# Altium integrated library Analog Devices Operational Amplifiers.IntLib: 2102 symbols (part 26 of 70)
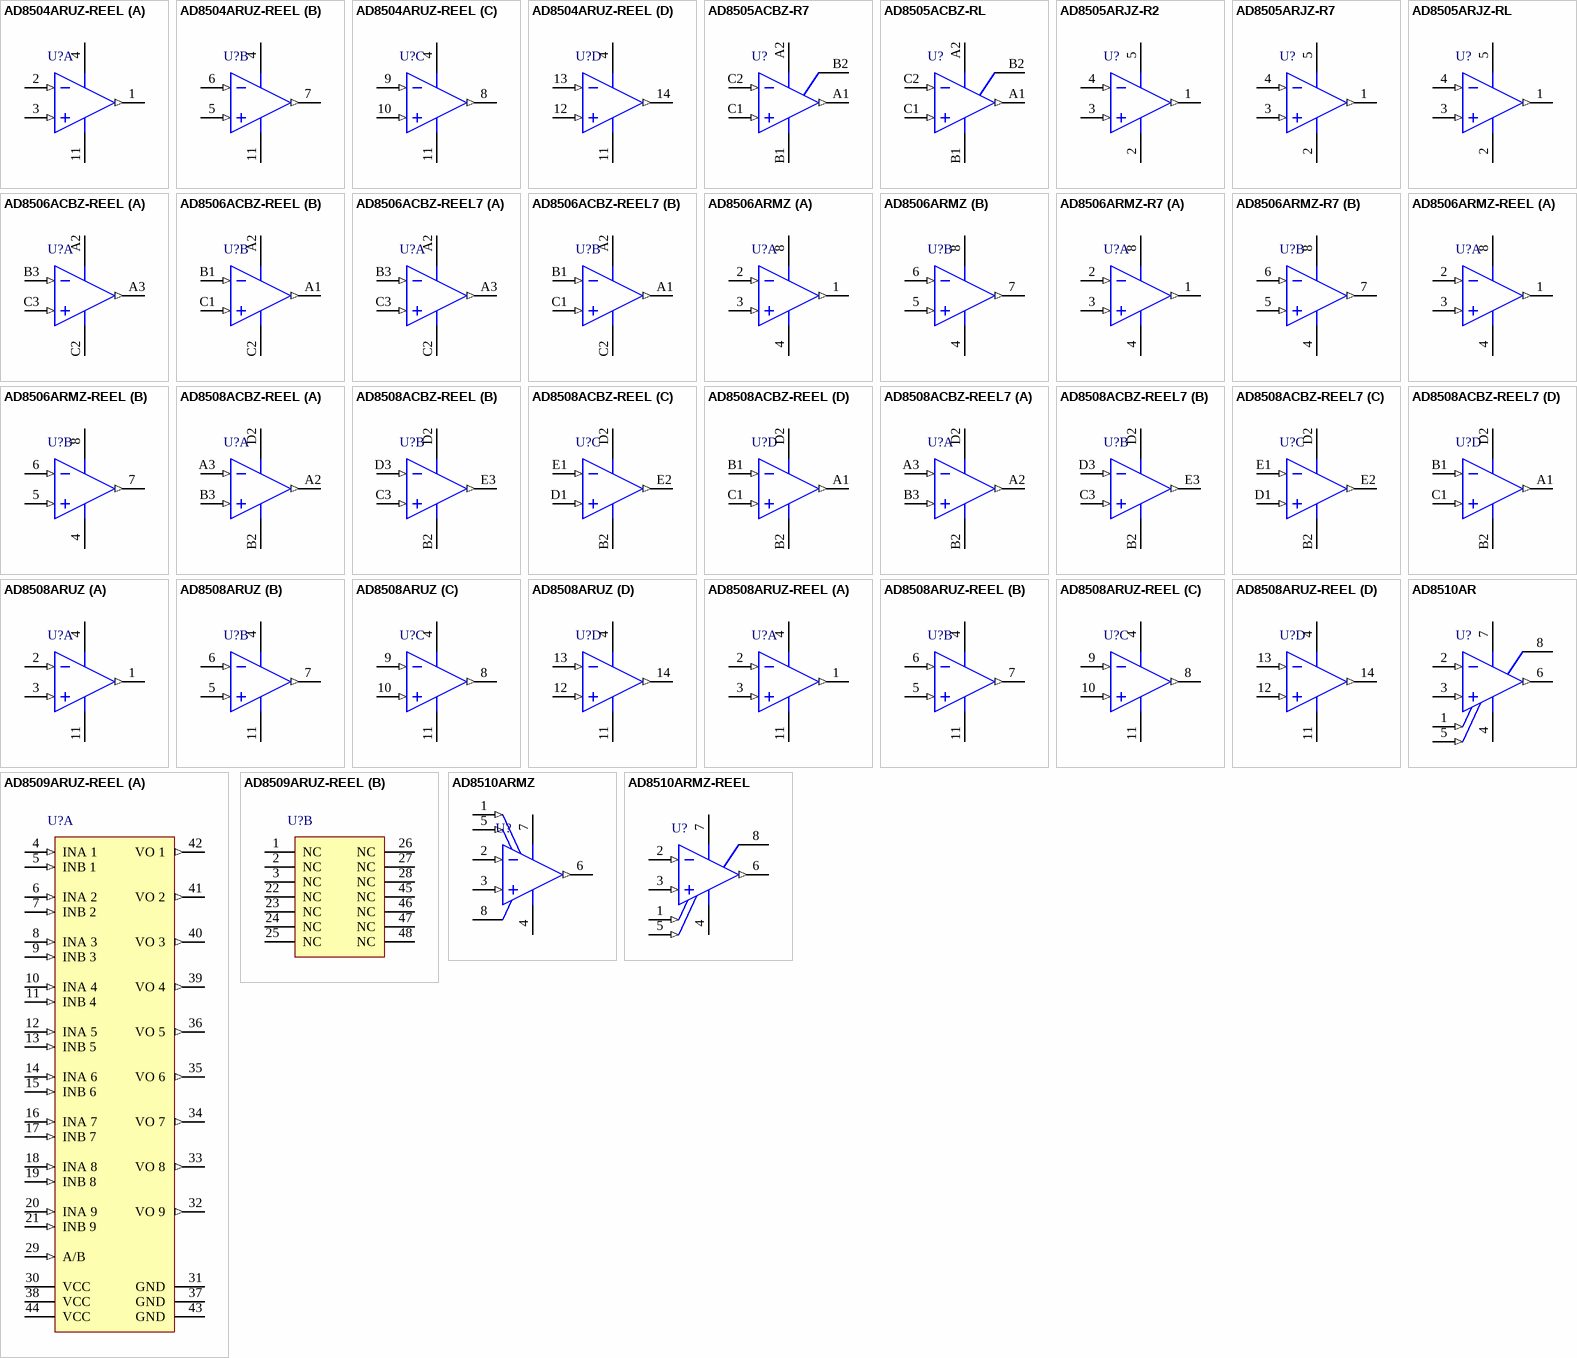
[diagram p139: symbols AD8504ARUZ-REEL to AD8510ARMZ-REEL]

## AD8506ARMZ-REEL
designator U?
Double Channel Rail-to-Rail Operational Amplifier, 150 KHz BW, 13 mV/us SR, Industrial, 8-pin SOP (RM-8), Reel; Generic Part Number: AD8506; Manufacturer: Analog Devices; PartNumber: AD8506ARMZ-REEL; Amplifiers Per Package: 2; Input Bias Current: 1pA; Input Offset Voltage: 2.5mV; Iq/Amp: 20uA; Small Signal Bandwidth: 150KHz; V Span Max: 5.5V; V Span Min: 1.8V; DatasheetVersion: Rev. E; PackageReference: RM-8; PackageDescription: 8-Pin Mini Small Outline Package, Body 3 x 3 mm, Pitch 0.65 mm; Supplier 1: Digi-Key; Supplier Part Number 1: AD8506ARMZ-REELTR-ND; Supplier 2: Digi-Key; Supplier Part Number 2: AD8506ARMZ-REELCT-ND; Supplier 3: Digi-Key; Supplier Part Number 3: AD8506ARMZ-REELDKR-ND; Slew Rate: 13mV/us; Mounting Technology: Surface Mount; Code_JEDEC: MO-187-AA; ComponentLink1Description: Manufacturer URL; ComponentLink1URL: http://www.analog.com/en/index.html; ComponentLink2Description: Datasheet; ComponentLink2URL: http://www.analog.com/static/imported-files/data_sheets/AD8505_8506_8508.pdf; ComponentLink3Description: Package Specification; ComponentLink3URL: http://www.analog.com/static/imported-files/packages/PKG_PDF/MSOP%28RM%29/RM_8.pdf
footprint ADI-RM-8_N (SOP, 8-Leads, Body 3x3mm, Pitch 0.65mm, IPC Medium Density)
footprint ADI-RM-8_L (SOP, 8-Leads, Body 3x3mm, Pitch 0.65mm, IPC High Density)
footprint ADI-RM-8_M (SOP, 8-Leads, Body 3x3mm, Pitch 0.65mm, IPC Low Density)
pins on every part: 4 -V (power), 8 +V (power)
part A pins: 1 OUT A (out), 2 -IN A (in), 3 +IN A (in)
part B pins: 5 +IN B (in), 6 -IN B (in), 7 OUT B (out)

## AD8508ACBZ-REEL
designator U?
Quad Channel Rail-to-Rail Operational Amplifier, 95 KHz BW, 13 mV/us SR, Industrial, 14-pin BGA (CB-14-1), Reel; Generic Part Number: AD8508; Manufacturer: Analog Devices; PartNumber: AD8508ACBZ-REEL; Amplifiers Per Package: 4; Input Bias Current: 1pA; Input Offset Voltage: 500uV; Iq/Amp: 15uA; Small Signal Bandwidth: 95KHz; V Span Max: 5V; V Span Min: 1.8V; DatasheetVersion: Rev. E; PackageVersion: 061208-A; PackageReference: CB-14-1; PackageDescription: 14-Ball Wafer Level Chip Scale Package, Body 2.96 x 1.46 mm, Pitch 0.5 mm; Supplier 1: Digi-Key; Supplier Part Number 1: AD8508ACBZ-REEL-ND; Slew Rate: 13mV/us; Mounting Technology: Surface Mount; ComponentLink1Description: Manufacturer URL; ComponentLink1URL: http://www.analog.com/en/index.html; ComponentLink2Description: Datasheet; ComponentLink2URL: http://www.analog.com/static/imported-files/data_sheets/AD8505_8506_8508.pdf; ComponentLink3Description: Package Specification; ComponentLink3URL: http://www.analog.com/static/imported-files/packages/PKG_PDF/WLCSP(CB)/CB_14_1.pdf
footprint ADI-CB-14-1 (BGA, 14-Balls, Body 2.96x1.46mm, Pitch 0.5mm)
pins on every part: B2 -V (power), D2 +V (power)
part A pins: A2 OUT A (out), A3 -IN A (in), B3 +IN A (in)
part B pins: C3 +IN B (in), D3 -IN B (in), E3 OUT B (out)
part C pins: D1 +IN C (in), E1 -IN C (in), E2 OUT C (out)
part D pins: A1 OUT D (out), B1 -IN D (in), C1 +IN D (in)

## AD8508ACBZ-REEL7
designator U?
Quad Channel Rail-to-Rail Operational Amplifier, 95 KHz BW, 13 mV/us SR, Industrial, 14-pin BGA (CB-14-1), Reel; Generic Part Number: AD8508; Manufacturer: Analog Devices; PartNumber: AD8508ACBZ-REEL7; Amplifiers Per Package: 4; Input Bias Current: 1pA; Input Offset Voltage: 500uV; Iq/Amp: 15uA; Small Signal Bandwidth: 95KHz; V Span Max: 5V; V Span Min: 1.8V; DatasheetVersion: Rev. E; PackageVersion: 061208-A; PackageReference: CB-14-1; PackageDescription: 14-Ball Wafer Level Chip Scale Package, Body 2.96 x 1.46 mm, Pitch 0.5 mm; Supplier 1: Digi-Key; Supplier Part Number 1: AD8508ACBZ-REEL7TR-ND; Supplier 2: Digi-Key; Supplier Part Number 2: AD8508ACBZ-REEL7CT-ND; Supplier 3: Digi-Key; Supplier Part Number 3: AD8508ACBZ-REEL7DKR-ND; Slew Rate: 13mV/us; Mounting Technology: Surface Mount; ComponentLink1Description: Manufacturer URL; ComponentLink1URL: http://www.analog.com/en/index.html; ComponentLink2Description: Datasheet; ComponentLink2URL: http://www.analog.com/static/imported-files/data_sheets/AD8505_8506_8508.pdf; ComponentLink3Description: Package Specification; ComponentLink3URL: http://www.analog.com/static/imported-files/packages/PKG_PDF/WLCSP(CB)/CB_14_1.pdf
footprint ADI-CB-14-1 (BGA, 14-Balls, Body 2.96x1.46mm, Pitch 0.5mm)
pins on every part: B2 -V (power), D2 +V (power)
part A pins: A2 OUT A (out), A3 -IN A (in), B3 +IN A (in)
part B pins: C3 +IN B (in), D3 -IN B (in), E3 OUT B (out)
part C pins: D1 +IN C (in), E1 -IN C (in), E2 OUT C (out)
part D pins: A1 OUT D (out), B1 -IN D (in), C1 +IN D (in)

## AD8508ARUZ
designator U?
Quad Channel Rail-to-Rail Operational Amplifier, 95 KHz BW, 13 mV/us SR, Industrial, 14-pin SOP (RU-14), Tube; Generic Part Number: AD8508; Manufacturer: Analog Devices; PartNumber: AD8508ARUZ; Amplifiers Per Package: 4; Input Bias Current: 1pA; Input Offset Voltage: 500uV; Iq/Amp: 15uA; Small Signal Bandwidth: 95KHz; V Span Max: 5V; V Span Min: 1.8V; DatasheetVersion: Rev. E; PackageReference: RU-14; PackageDescription: 14-Pin Thin Shrink Small Outline Package, Body 5 x 4.4 mm, Pitch 0.65 mm; Supplier 1: Digi-Key; Supplier Part Number 1: AD8508ARUZ-ND; Supplier 2: Newark; Supplier Part Number 2: 07P8986; Slew Rate: 13mV/us; Mounting Technology: Surface Mount; Code_JEDEC: MO-153AB-1; ComponentLink1Description: Manufacturer URL; ComponentLink1URL: http://www.analog.com/en/index.html; ComponentLink2Description: Datasheet; ComponentLink2URL: http://www.analog.com/static/imported-files/data_sheets/AD8505_8506_8508.pdf; ComponentLink3Description: Package Specification; ComponentLink3URL: http://www.analog.com/static/imported-files/packages/36057385283879153717235186773RU14.pdf
footprint ADI-RU-14_N (SOP, 14-Leads, Body 5x4.4mm, Pitch 0.65mm, IPC Medium Density)
footprint ADI-RU-14_L (SOP, 14-Leads, Body 5x4.4mm, Pitch 0.65mm, IPC High Density)
footprint ADI-RU-14_M (SOP, 14-Leads, Body 5x4.4mm, Pitch 0.65mm, IPC Low Density)
pins on every part: 4 +V (power), 11 -V (power)
part A pins: 1 OUT A (out), 2 -IN A (in), 3 +IN A (in)
part B pins: 5 +IN B (in), 6 -IN B (in), 7 OUT B (out)
part C pins: 8 OUT C (out), 9 -IN C (in), 10 +IN C (in)
part D pins: 12 +IN D (in), 13 -IN D (in), 14 OUT D (out)

## AD8508ARUZ-REEL
designator U?
Quad Channel Rail-to-Rail Operational Amplifier, 95 KHz BW, 13 mV/us SR, Industrial, 14-pin SOP (RU-14), Reel; Generic Part Number: AD8508; Manufacturer: Analog Devices; PartNumber: AD8508ARUZ-REEL; Amplifiers Per Package: 4; Input Bias Current: 1pA; Input Offset Voltage: 500uV; Iq/Amp: 15uA; Small Signal Bandwidth: 95KHz; V Span Max: 5V; V Span Min: 1.8V; DatasheetVersion: Rev. E; PackageReference: RU-14; PackageDescription: 14-Pin Thin Shrink Small Outline Package, Body 5 x 4.4 mm, Pitch 0.65 mm; Supplier 1: Digi-Key; Supplier Part Number 1: AD8508ARUZ-REEL-ND; Slew Rate: 13mV/us; Mounting Technology: Surface Mount; Code_JEDEC: MO-153AB-1; ComponentLink1Description: Manufacturer URL; ComponentLink1URL: http://www.analog.com/en/index.html; ComponentLink2Description: Datasheet; ComponentLink2URL: http://www.analog.com/static/imported-files/data_sheets/AD8505_8506_8508.pdf; ComponentLink3Description: Package Specification; ComponentLink3URL: http://www.analog.com/static/imported-files/packages/36057385283879153717235186773RU14.pdf
footprint ADI-RU-14_N (SOP, 14-Leads, Body 5x4.4mm, Pitch 0.65mm, IPC Medium Density)
footprint ADI-RU-14_L (SOP, 14-Leads, Body 5x4.4mm, Pitch 0.65mm, IPC High Density)
footprint ADI-RU-14_M (SOP, 14-Leads, Body 5x4.4mm, Pitch 0.65mm, IPC Low Density)
pins on every part: 4 +V (power), 11 -V (power)
part A pins: 1 OUT A (out), 2 -IN A (in), 3 +IN A (in)
part B pins: 5 +IN B (in), 6 -IN B (in), 7 OUT B (out)
part C pins: 8 OUT C (out), 9 -IN C (in), 10 +IN C (in)
part D pins: 12 +IN D (in), 13 -IN D (in), 14 OUT D (out)

## AD8509ARUZ-REEL
designator U?
9 Channel Single-Supply Operation Operational Amplifier, 7 V/us SR, Industrial, 48-pin SOP (RV-48), Reel; Generic Part Number: AD8509; Manufacturer: Analog Devices; PartNumber: AD8509ARUZ-REEL; Amplifiers Per Package: 9; Input Bias Current: 50nA; Input Offset Voltage: 20mV; Iq/Amp: 8.5mA; Slew Rate: 7V/us; V Span Max: 6.5V; V Span Min: 3.3V; DatasheetVersion: Rev. C; PackageReference: RV-48; PackageDescription: 48-Pin Thin Shrink Small Outline Package, Body 12.5 x 6.1 mm, Pitch 0.5 mm; Supplier 1: Digi-Key; Supplier Part Number 1: AD8509ARUZ-REEL-ND; Packing: Reel; Mounting Technology: Surface Mount; Code_JEDEC: MO-153-ED; ComponentLink1Description: Manufacturer URL; ComponentLink1URL: http://www.analog.com/en/index.html; ComponentLink2Description: Datasheet; ComponentLink2URL: http://www.analog.com/static/imported-files/data_sheets/AD8509_8511.pdf; ComponentLink3Description: Package Specification; ComponentLink3URL: http://www.analog.com/static/imported-files/packages/59272155RV_48.pdf
footprint ADI-RV-48_N (SOP, 48-Leads, Body 12.5x6.1mm, Pitch 0.5mm, IPC Medium Density)
footprint ADI-RV-48_L (SOP, 48-Leads, Body 12.5x6.1mm, Pitch 0.5mm, IPC High Density)
footprint ADI-RV-48_M (SOP, 48-Leads, Body 12.5x6.1mm, Pitch 0.5mm, IPC Low Density)
part A pins: 4 INA 1 (in) "MUX Input", 5 INB 1 (in) "MUX Input", 6 INA 2 (in) "MUX Input", 7 INB 2 (in) "MUX Input", 8 INA 3 (in) "MUX Input", 9 INB 3 (in) "MUX Input", 10 INA 4 (in) "MUX Input", 11 INB 4 (in) "MUX Input", 12 INA 5 (in) "MUX Input", 13 INB 5 (in) "MUX Input", 14 INA 6 (in) "MUX Input", 15 INB 6 (in) "MUX Input", 16 INA 7 (in) "MUX Input", 17 INB 7 (in) "MUX Input", 18 INA 8 (in) "MUX Input", 19 INB 8 (in) "MUX Input", 20 INA 9 (in) "MUX Input", 21 INB 9 (in) "MUX Input", 29 A/B (in) "Input Selection Pin", 30 VCC (power) "Bias", 31 GND (power) "Ground", 32 VO 9 (out) "MUX Output", 33 VO 8 (out) "MUX Output", 34 VO 7 (out) "MUX Output", 35 VO 6 (out) "MUX Output", 36 VO 5 (out) "MUX Output", 37 GND (power) "Ground", 38 VCC (power) "Bias", 39 VO 4 (out) "MUX Output", 40 VO 3 (out) "MUX Output", 41 VO 2 (out) "MUX Output", 42 VO 1 (out) "MUX Output", 43 GND (power) "Ground", 44 VCC (power) "Bias"
part B pins: 1 NC "No Connection", 2 NC "No Connection", 3 NC "No Connection", 22 NC "No Connection", 23 NC "No Connection", 24 NC "No Connection", 25 NC "No Connection", 26 NC "No Connection", 27 NC "No Connection", 28 NC "No Connection", 45 NC "No Connection", 46 NC "No Connection", 47 NC "No Connection", 48 NC "No Connection"

## AD8510AR
designator U?
Single Channel Low Offset Voltage Operational Amplifier, 8 MHz BW, 20 V/us SR, Industrial, 8-pin SOIC (R-8), Tube; Generic Part Number: AD8510; Manufacturer: Analog Devices; PartNumber: AD8510AR; Amplifiers Per Package: 1; Input Bias Current: 21pA; Input Offset Voltage: 80uV; Iq/Amp: 2.5mA; Slew Rate: 20V/us; Small Signal Bandwidth: 8MHz; V Span Max: 36V; V Span Min: 9V; DatasheetVersion: Rev. I; PackageVersion: 060506-A; PackageReference: R-8; PackageDescription: 8-Pin Standard Small Outline Package, Body 3.9 x 4.9 mm, Pitch 1.27 mm; Supplier 1: Digi-Key; Supplier Part Number 1: AD8510AR-ND; Mounting Technology: Surface Mount; Code_JEDEC: MS-012-AA; ComponentLink1Description: Manufacturer URL; ComponentLink1URL: http://www.analog.com/en/index.html; ComponentLink2Description: Datasheet; ComponentLink2URL: http://www.analog.com/static/imported-files/data_sheets/AD8510_8512_8513.pdf; ComponentLink3Description: Package Specification; ComponentLink3URL: http://www.analog.com/static/imported-files/packages/PKG_PDF/SOIC_Narrow%20(R)/R_8.pdf; ComponentLink4Description: Reference Circuit; ComponentLink4URL: http://www.analog.com/en/all-operational-amplifiers-op-amps/operational-amplifiers-op-amps/ad8510/products/product.html#product-recommendations
footprint ADI-R-8_N (SOIC, 8-Leads, Body 4.9x3.9mm, Pitch 1.27mm, IPC Medium Density)
footprint ADI-R-8_L (SOIC, 8-Leads, Body 4.9x3.9mm, Pitch 1.27mm, IPC High Density)
footprint ADI-R-8_M (SOIC, 8-Leads, Body 4.9x3.9mm, Pitch 1.27mm, IPC Low Density)
pins: 1 NULL (in), 2 -IN (in), 3 +IN (in), 4 -V (power), 5 NULL (in), 6 OUT (out), 7 +V (power), 8 NC

## AD8510ARMZ
designator U?
Single Channel Low Offset Voltage Operational Amplifier, 8 MHz BW, 20 V/us SR, Industrial, 8-pin SOP (RM-8), Tube; Generic Part Number: AD8510; Manufacturer: Analog Devices; PartNumber: AD8510ARMZ; Amplifiers Per Package: 1; Input Bias Current: 21pA; Input Offset Voltage: 80uV; Iq/Amp: 2.5mA; Slew Rate: 20V/us; Small Signal Bandwidth: 8MHz; V Span Max: 36V; V Span Min: 9V; DatasheetVersion: Rev. I; PackageReference: RM-8; PackageDescription: 8-Pin Mini Small Outline Package, Body 3 x 3 mm, Pitch 0.65 mm; Supplier 1: Digi-Key; Supplier Part Number 1: AD8510ARMZ-ND; Supplier 2: Newark; Supplier Part Number 2: 45P6465; Mounting Technology: Surface Mount; Code_JEDEC: MO-187-AA; ComponentLink1Description: Manufacturer URL; ComponentLink1URL: http://www.analog.com/en/index.html; ComponentLink2Description: Datasheet; ComponentLink2URL: http://www.analog.com/static/imported-files/data_sheets/AD8510_8512_8513.pdf; ComponentLink3Description: Package Specification; ComponentLink3URL: http://www.analog.com/static/imported-files/packages/PKG_PDF/MSOP%28RM%29/RM_8.pdf; ComponentLink4Description: Reference Circuit; ComponentLink4URL: http://www.analog.com/en/all-operational-amplifiers-op-amps/operational-amplifiers-op-amps/ad8510/products/product.html#product-recommendations
footprint ADI-RM-8_N (SOP, 8-Leads, Body 3x3mm, Pitch 0.65mm, IPC Medium Density)
footprint ADI-RM-8_L (SOP, 8-Leads, Body 3x3mm, Pitch 0.65mm, IPC High Density)
footprint ADI-RM-8_M (SOP, 8-Leads, Body 3x3mm, Pitch 0.65mm, IPC Low Density)
pins: 1 NULL (in), 2 -IN (in), 3 +IN (in), 4 -V (power), 5 NULL (in), 6 OUT (out), 7 +V (power), 8 NC

## AD8510ARMZ-REEL
designator U?
Single Channel Low Offset Voltage Operational Amplifier, 8 MHz BW, 20 V/us SR, Industrial, 8-pin SOP (RM-8), Reel; Generic Part Number: AD8510; Manufacturer: Analog Devices; PartNumber: AD8510ARMZ-REEL; Amplifiers Per Package: 1; Input Bias Current: 21pA; Input Offset Voltage: 80uV; Iq/Amp: 2.5mA; Slew Rate: 20V/us; Small Signal Bandwidth: 8MHz; V Span Max: 36V; V Span Min: 9V; DatasheetVersion: Rev. I; PackageReference: RM-8; PackageDescription: 8-Pin Mini Small Outline Package, Body 3 x 3 mm, Pitch 0.65 mm; Supplier 1: Digi-Key; Supplier Part Number 1: AD8510ARMZ-REELTR-ND; Supplier 2: Digi-Key; Supplier Part Number 2: AD8510ARMZ-REELCT-ND; Supplier 3: Digi-Key; Supplier Part Number 3: AD8510ARMZ-REELDKR-ND; Mounting Technology: Surface Mount; Code_JEDEC: MO-187-AA; ComponentLink1Description: Manufacturer URL; ComponentLink1URL: http://www.analog.com/en/index.html; ComponentLink2Description: Datasheet; ComponentLink2URL: http://www.analog.com/static/imported-files/data_sheets/AD8510_8512_8513.pdf; ComponentLink3Description: Package Specification; ComponentLink3URL: http://www.analog.com/static/imported-files/packages/PKG_PDF/MSOP%28RM%29/RM_8.pdf; ComponentLink4Description: Reference Circuit; ComponentLink4URL: http://www.analog.com/en/all-operational-amplifiers-op-amps/operational-amplifiers-op-amps/ad8510/products/product.html#product-recommendations
footprint ADI-RM-8_N (SOP, 8-Leads, Body 3x3mm, Pitch 0.65mm, IPC Medium Density)
footprint ADI-RM-8_L (SOP, 8-Leads, Body 3x3mm, Pitch 0.65mm, IPC High Density)
footprint ADI-RM-8_M (SOP, 8-Leads, Body 3x3mm, Pitch 0.65mm, IPC Low Density)
pins: 1 NULL (in), 2 -IN (in), 3 +IN (in), 4 -V (power), 5 NULL (in), 6 OUT (out), 7 +V (power), 8 NC

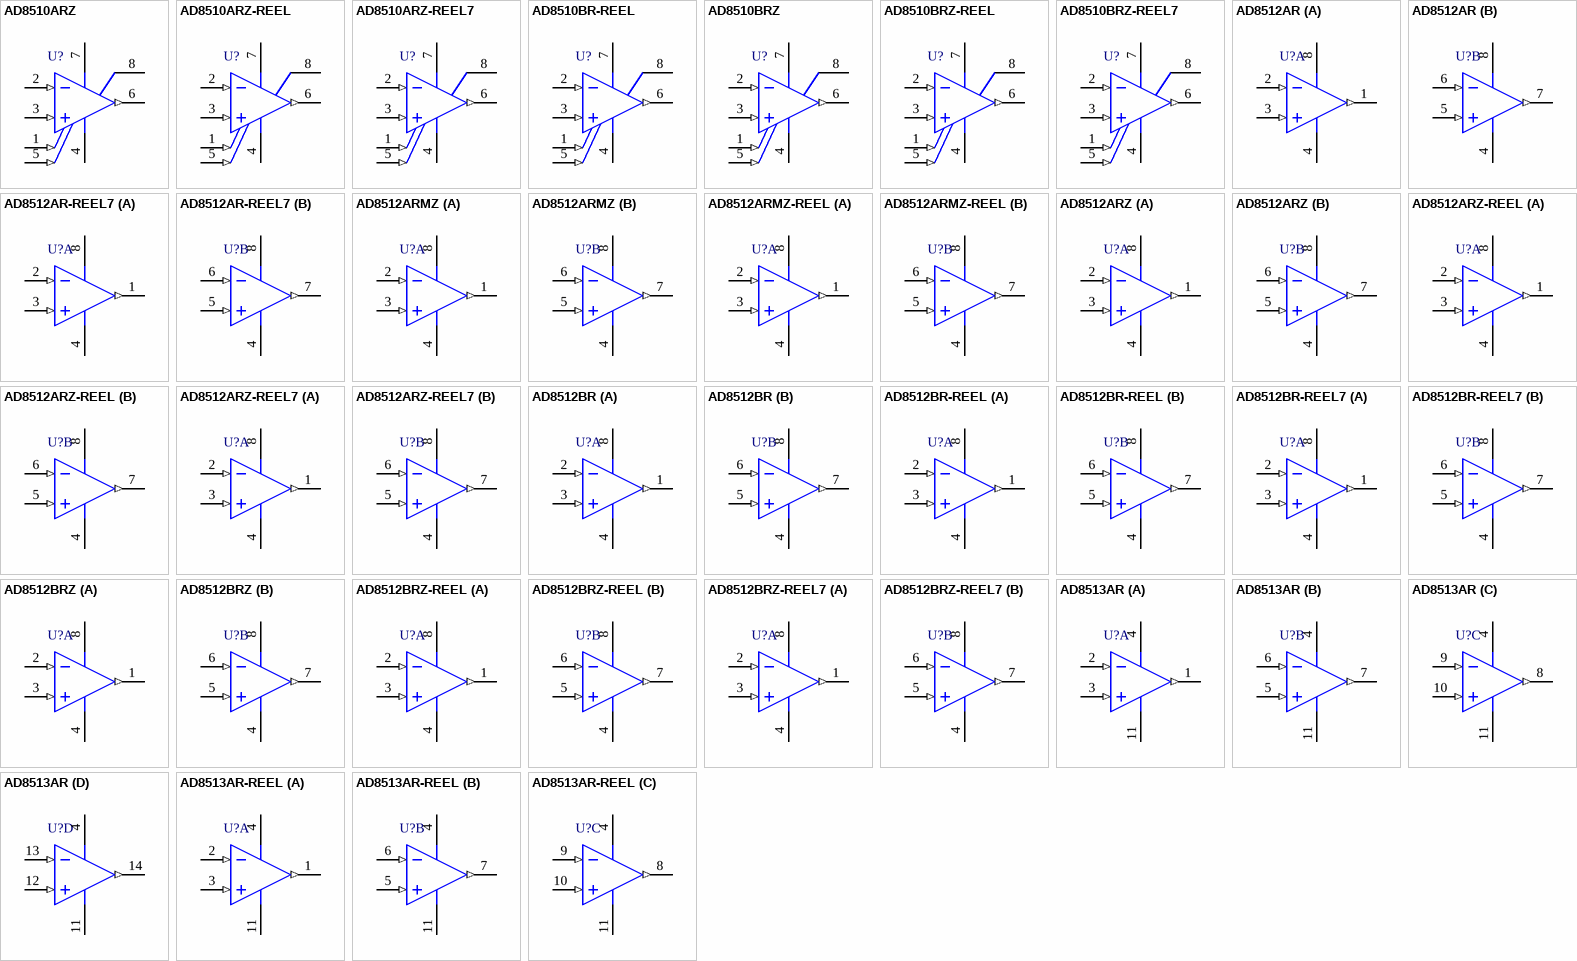
[diagram p38: symbols AD8510ARZ to AD8513AR-REEL]

## AD8510ARZ
designator U?
Single Channel Low Offset Voltage Operational Amplifier, 8 MHz BW, 20 V/us SR, Industrial, 8-pin SOIC (R-8), Tube; Generic Part Number: AD8510; Manufacturer: Analog Devices; PartNumber: AD8510ARZ; Amplifiers Per Package: 1; Input Bias Current: 21pA; Input Offset Voltage: 80uV; Iq/Amp: 2.5mA; Slew Rate: 20V/us; Small Signal Bandwidth: 8MHz; V Span Max: 36V; V Span Min: 9V; DatasheetVersion: Rev. I; PackageVersion: 060506-A; PackageReference: R-8; PackageDescription: 8-Pin Standard Small Outline Package, Body 3.9 x 4.9 mm, Pitch 1.27 mm; Supplier 1: Digi-Key; Supplier Part Number 1: AD8510ARZ-ND; Supplier 2: Farnell; Supplier Part Number 2: 1389162; Supplier 3: Farnell; Supplier Part Number 3: 1319452; Supplier 4: Newark; Supplier Part Number 4: 19M8908; Mounting Technology: Surface Mount; Code_JEDEC: MS-012-AA; ComponentLink1Description: Manufacturer URL; ComponentLink1URL: http://www.analog.com/en/index.html; ComponentLink2Description: Datasheet; ComponentLink2URL: http://www.analog.com/static/imported-files/data_sheets/AD8510_8512_8513.pdf; ComponentLink3Description: Package Specification; ComponentLink3URL: http://www.analog.com/static/imported-files/packages/PKG_PDF/SOIC_Narrow%20(R)/R_8.pdf; ComponentLink4Description: Reference Circuit; ComponentLink4URL: http://www.analog.com/en/all-operational-amplifiers-op-amps/operational-amplifiers-op-amps/ad8510/products/product.html#product-recommendations
footprint ADI-R-8_N (SOIC, 8-Leads, Body 4.9x3.9mm, Pitch 1.27mm, IPC Medium Density)
footprint ADI-R-8_L (SOIC, 8-Leads, Body 4.9x3.9mm, Pitch 1.27mm, IPC High Density)
footprint ADI-R-8_M (SOIC, 8-Leads, Body 4.9x3.9mm, Pitch 1.27mm, IPC Low Density)
pins: 1 NULL (in), 2 -IN (in), 3 +IN (in), 4 -V (power), 5 NULL (in), 6 OUT (out), 7 +V (power), 8 NC

## AD8510ARZ-REEL
designator U?
Single Channel Low Offset Voltage Operational Amplifier, 8 MHz BW, 20 V/us SR, Industrial, 8-pin SOIC (R-8), Reel; Generic Part Number: AD8510; Manufacturer: Analog Devices; PartNumber: AD8510ARZ-REEL; Amplifiers Per Package: 1; Input Bias Current: 21pA; Input Offset Voltage: 80uV; Iq/Amp: 2.5mA; Slew Rate: 20V/us; Small Signal Bandwidth: 8MHz; V Span Max: 36V; V Span Min: 9V; DatasheetVersion: Rev. I; PackageVersion: 060506-A; PackageReference: R-8; PackageDescription: 8-Pin Standard Small Outline Package, Body 3.9 x 4.9 mm, Pitch 1.27 mm; Supplier 1: Digi-Key; Supplier Part Number 1: AD8510ARZ-REEL-ND; Mounting Technology: Surface Mount; Code_JEDEC: MS-012-AA; ComponentLink1Description: Manufacturer URL; ComponentLink1URL: http://www.analog.com/en/index.html; ComponentLink2Description: Datasheet; ComponentLink2URL: http://www.analog.com/static/imported-files/data_sheets/AD8510_8512_8513.pdf; ComponentLink3Description: Package Specification; ComponentLink3URL: http://www.analog.com/static/imported-files/packages/PKG_PDF/SOIC_Narrow%20(R)/R_8.pdf; ComponentLink4Description: Reference Circuit; ComponentLink4URL: http://www.analog.com/en/all-operational-amplifiers-op-amps/operational-amplifiers-op-amps/ad8510/products/product.html#product-recommendations
footprint ADI-R-8_N (SOIC, 8-Leads, Body 4.9x3.9mm, Pitch 1.27mm, IPC Medium Density)
footprint ADI-R-8_L (SOIC, 8-Leads, Body 4.9x3.9mm, Pitch 1.27mm, IPC High Density)
footprint ADI-R-8_M (SOIC, 8-Leads, Body 4.9x3.9mm, Pitch 1.27mm, IPC Low Density)
pins: 1 NULL (in), 2 -IN (in), 3 +IN (in), 4 -V (power), 5 NULL (in), 6 OUT (out), 7 +V (power), 8 NC

## AD8510ARZ-REEL7
designator U?
Single Channel Low Offset Voltage Operational Amplifier, 8 MHz BW, 20 V/us SR, Industrial, 8-pin SOIC (R-8), Reel; Generic Part Number: AD8510; Manufacturer: Analog Devices; PartNumber: AD8510ARZ-REEL7; Amplifiers Per Package: 1; Input Bias Current: 21pA; Input Offset Voltage: 80uV; Iq/Amp: 2.5mA; Slew Rate: 20V/us; Small Signal Bandwidth: 8MHz; V Span Max: 36V; V Span Min: 9V; DatasheetVersion: Rev. I; PackageVersion: 060506-A; PackageReference: R-8; PackageDescription: 8-Pin Standard Small Outline Package, Body 3.9 x 4.9 mm, Pitch 1.27 mm; Supplier 1: Digi-Key; Supplier Part Number 1: AD8510ARZ-REEL7TR-ND; Supplier 2: Digi-Key; Supplier Part Number 2: AD8510ARZ-REEL7CT-ND; Supplier 3: Digi-Key; Supplier Part Number 3: AD8510ARZ-REEL7DKR-ND; Supplier 4: Newark; Supplier Part Number 4: 59K6768; Mounting Technology: Surface Mount; Code_JEDEC: MS-012-AA; ComponentLink1Description: Manufacturer URL; ComponentLink1URL: http://www.analog.com/en/index.html; ComponentLink2Description: Datasheet; ComponentLink2URL: http://www.analog.com/static/imported-files/data_sheets/AD8510_8512_8513.pdf; ComponentLink3Description: Package Specification; ComponentLink3URL: http://www.analog.com/static/imported-files/packages/PKG_PDF/SOIC_Narrow%20(R)/R_8.pdf; ComponentLink4Description: Reference Circuit; ComponentLink4URL: http://www.analog.com/en/all-operational-amplifiers-op-amps/operational-amplifiers-op-amps/ad8510/products/product.html#product-recommendations
footprint ADI-R-8_N (SOIC, 8-Leads, Body 4.9x3.9mm, Pitch 1.27mm, IPC Medium Density)
footprint ADI-R-8_L (SOIC, 8-Leads, Body 4.9x3.9mm, Pitch 1.27mm, IPC High Density)
footprint ADI-R-8_M (SOIC, 8-Leads, Body 4.9x3.9mm, Pitch 1.27mm, IPC Low Density)
pins: 1 NULL (in), 2 -IN (in), 3 +IN (in), 4 -V (power), 5 NULL (in), 6 OUT (out), 7 +V (power), 8 NC

## AD8510BR-REEL
designator U?
Single Channel Low Offset Voltage Operational Amplifier, 8 MHz BW, 20 V/us SR, Industrial, 8-pin SOIC (R-8), Reel; Generic Part Number: AD8510; Manufacturer: Analog Devices; PartNumber: AD8510BR-REEL; Amplifiers Per Package: 1; Input Bias Current: 21pA; Input Offset Voltage: 80uV; Iq/Amp: 2.5mA; Slew Rate: 20V/us; Small Signal Bandwidth: 8MHz; V Span Max: 36V; V Span Min: 9V; DatasheetVersion: Rev. I; PackageVersion: 060506-A; PackageReference: R-8; PackageDescription: 8-Pin Standard Small Outline Package, Body 3.9 x 4.9 mm, Pitch 1.27 mm; Supplier 1: Digi-Key; Supplier Part Number 1: AD8510BR-REEL-ND; Mounting Technology: Surface Mount; Code_JEDEC: MS-012-AA; ComponentLink1Description: Manufacturer URL; ComponentLink1URL: http://www.analog.com/en/index.html; ComponentLink2Description: Datasheet; ComponentLink2URL: http://www.analog.com/static/imported-files/data_sheets/AD8510_8512_8513.pdf; ComponentLink3Description: Package Specification; ComponentLink3URL: http://www.analog.com/static/imported-files/packages/PKG_PDF/SOIC_Narrow%20(R)/R_8.pdf; ComponentLink4Description: Reference Circuit; ComponentLink4URL: http://www.analog.com/en/all-operational-amplifiers-op-amps/operational-amplifiers-op-amps/ad8510/products/product.html#product-recommendations
footprint ADI-R-8_N (SOIC, 8-Leads, Body 4.9x3.9mm, Pitch 1.27mm, IPC Medium Density)
footprint ADI-R-8_L (SOIC, 8-Leads, Body 4.9x3.9mm, Pitch 1.27mm, IPC High Density)
footprint ADI-R-8_M (SOIC, 8-Leads, Body 4.9x3.9mm, Pitch 1.27mm, IPC Low Density)
pins: 1 NULL (in), 2 -IN (in), 3 +IN (in), 4 -V (power), 5 NULL (in), 6 OUT (out), 7 +V (power), 8 NC

## AD8510BRZ
designator U?
Single Channel Low Offset Voltage Operational Amplifier, 8 MHz BW, 20 V/us SR, Industrial, 8-pin SOIC (R-8), Tube; Generic Part Number: AD8510; Manufacturer: Analog Devices; PartNumber: AD8510BRZ; Amplifiers Per Package: 1; Input Bias Current: 21pA; Input Offset Voltage: 80uV; Iq/Amp: 2.5mA; Slew Rate: 20V/us; Small Signal Bandwidth: 8MHz; V Span Max: 36V; V Span Min: 9V; DatasheetVersion: Rev. I; PackageVersion: 060506-A; PackageReference: R-8; PackageDescription: 8-Pin Standard Small Outline Package, Body 3.9 x 4.9 mm, Pitch 1.27 mm; Supplier 1: Digi-Key; Supplier Part Number 1: AD8510BRZ-ND; Supplier 2: Farnell; Supplier Part Number 2: 1389163; Supplier 3: Newark; Supplier Part Number 3: 15P0994; Supplier 4: Newark; Supplier Part Number 4: 59K6769; Mounting Technology: Surface Mount; Code_JEDEC: MS-012-AA; ComponentLink1Description: Manufacturer URL; ComponentLink1URL: http://www.analog.com/en/index.html; ComponentLink2Description: Datasheet; ComponentLink2URL: http://www.analog.com/static/imported-files/data_sheets/AD8510_8512_8513.pdf; ComponentLink3Description: Package Specification; ComponentLink3URL: http://www.analog.com/static/imported-files/packages/PKG_PDF/SOIC_Narrow%20(R)/R_8.pdf; ComponentLink4Description: Reference Circuit; ComponentLink4URL: http://www.analog.com/en/all-operational-amplifiers-op-amps/operational-amplifiers-op-amps/ad8510/products/product.html#product-recommendations
footprint ADI-R-8_N (SOIC, 8-Leads, Body 4.9x3.9mm, Pitch 1.27mm, IPC Medium Density)
footprint ADI-R-8_L (SOIC, 8-Leads, Body 4.9x3.9mm, Pitch 1.27mm, IPC High Density)
footprint ADI-R-8_M (SOIC, 8-Leads, Body 4.9x3.9mm, Pitch 1.27mm, IPC Low Density)
pins: 1 NULL (in), 2 -IN (in), 3 +IN (in), 4 -V (power), 5 NULL (in), 6 OUT (out), 7 +V (power), 8 NC

## AD8510BRZ-REEL
designator U?
Single Channel Low Offset Voltage Operational Amplifier, 8 MHz BW, 20 V/us SR, Industrial, 8-pin SOIC (R-8), Reel; Generic Part Number: AD8510; Manufacturer: Analog Devices; PartNumber: AD8510BRZ-REEL; Amplifiers Per Package: 1; Input Bias Current: 21pA; Input Offset Voltage: 80uV; Iq/Amp: 2.5mA; Slew Rate: 20V/us; Small Signal Bandwidth: 8MHz; V Span Max: 36V; V Span Min: 9V; DatasheetVersion: Rev. I; PackageVersion: 060506-A; PackageReference: R-8; PackageDescription: 8-Pin Standard Small Outline Package, Body 3.9 x 4.9 mm, Pitch 1.27 mm; Supplier 1: Digi-Key; Supplier Part Number 1: AD8510BRZ-REEL-ND; Mounting Technology: Surface Mount; Code_JEDEC: MS-012-AA; ComponentLink1Description: Manufacturer URL; ComponentLink1URL: http://www.analog.com/en/index.html; ComponentLink2Description: Datasheet; ComponentLink2URL: http://www.analog.com/static/imported-files/data_sheets/AD8510_8512_8513.pdf; ComponentLink3Description: Package Specification; ComponentLink3URL: http://www.analog.com/static/imported-files/packages/PKG_PDF/SOIC_Narrow%20(R)/R_8.pdf; ComponentLink4Description: Reference Circuit; ComponentLink4URL: http://www.analog.com/en/all-operational-amplifiers-op-amps/operational-amplifiers-op-amps/ad8510/products/product.html#product-recommendations
footprint ADI-R-8_N (SOIC, 8-Leads, Body 4.9x3.9mm, Pitch 1.27mm, IPC Medium Density)
footprint ADI-R-8_L (SOIC, 8-Leads, Body 4.9x3.9mm, Pitch 1.27mm, IPC High Density)
footprint ADI-R-8_M (SOIC, 8-Leads, Body 4.9x3.9mm, Pitch 1.27mm, IPC Low Density)
pins: 1 NULL (in), 2 -IN (in), 3 +IN (in), 4 -V (power), 5 NULL (in), 6 OUT (out), 7 +V (power), 8 NC

## AD8510BRZ-REEL7
designator U?
Single Channel Low Offset Voltage Operational Amplifier, 8 MHz BW, 20 V/us SR, Industrial, 8-pin SOIC (R-8), Reel; Generic Part Number: AD8510; Manufacturer: Analog Devices; PartNumber: AD8510BRZ-REEL7; Amplifiers Per Package: 1; Input Bias Current: 21pA; Input Offset Voltage: 80uV; Iq/Amp: 2.5mA; Slew Rate: 20V/us; Small Signal Bandwidth: 8MHz; V Span Max: 36V; V Span Min: 9V; DatasheetVersion: Rev. I; PackageVersion: 060506-A; PackageReference: R-8; PackageDescription: 8-Pin Standard Small Outline Package, Body 3.9 x 4.9 mm, Pitch 1.27 mm; Supplier 1: Digi-Key; Supplier Part Number 1: AD8510BRZ-REEL7-ND; Mounting Technology: Surface Mount; Code_JEDEC: MS-012-AA; ComponentLink1Description: Manufacturer URL; ComponentLink1URL: http://www.analog.com/en/index.html; ComponentLink2Description: Datasheet; ComponentLink2URL: http://www.analog.com/static/imported-files/data_sheets/AD8510_8512_8513.pdf; ComponentLink3Description: Package Specification; ComponentLink3URL: http://www.analog.com/static/imported-files/packages/PKG_PDF/SOIC_Narrow%20(R)/R_8.pdf; ComponentLink4Description: Reference Circuit; ComponentLink4URL: http://www.analog.com/en/all-operational-amplifiers-op-amps/operational-amplifiers-op-amps/ad8510/products/product.html#product-recommendations
footprint ADI-R-8_N (SOIC, 8-Leads, Body 4.9x3.9mm, Pitch 1.27mm, IPC Medium Density)
footprint ADI-R-8_L (SOIC, 8-Leads, Body 4.9x3.9mm, Pitch 1.27mm, IPC High Density)
footprint ADI-R-8_M (SOIC, 8-Leads, Body 4.9x3.9mm, Pitch 1.27mm, IPC Low Density)
pins: 1 NULL (in), 2 -IN (in), 3 +IN (in), 4 -V (power), 5 NULL (in), 6 OUT (out), 7 +V (power), 8 NC

## AD8512AR
designator U?
Double Channel Low Offset Voltage Operational Amplifier, 8 MHz BW, 20 V/us SR, Industrial, 8-pin SOIC (R-8), Tube; Generic Part Number: AD8512; Manufacturer: Analog Devices; PartNumber: AD8512AR; Amplifiers Per Package: 2; Input Bias Current: 21pA; Input Offset Voltage: 6pA; Iq/Amp: 2.5mA; Slew Rate: 20V/us; Small Signal Bandwidth: 8MHz; V Span Max: 36V; V Span Min: 9V; DatasheetVersion: Rev. I; PackageVersion: 060506-A; PackageReference: R-8; PackageDescription: 8-Pin Standard Small Outline Package, Body 3.9 x 4.9 mm, Pitch 1.27 mm; Supplier 1: Digi-Key; Supplier Part Number 1: AD8512AR-ND; Mounting Technology: Surface Mount; Code_JEDEC: MS-012-AA; ComponentLink1Description: Manufacturer URL; ComponentLink1URL: http://www.analog.com/en/index.html; ComponentLink2Description: Datasheet; ComponentLink2URL: http://www.analog.com/static/imported-files/data_sheets/AD8510_8512_8513.pdf; ComponentLink3Description: Package Specification; ComponentLink3URL: http://www.analog.com/static/imported-files/packages/PKG_PDF/SOIC_Narrow%20(R)/R_8.pdf; ComponentLink4Description: Reference Circuit; ComponentLink4URL: http://www.analog.com/en/all-operational-amplifiers-op-amps/operational-amplifiers-op-amps/ad8512/products/product.html#product-recommendations
footprint ADI-R-8_N (SOIC, 8-Leads, Body 4.9x3.9mm, Pitch 1.27mm, IPC Medium Density)
footprint ADI-R-8_L (SOIC, 8-Leads, Body 4.9x3.9mm, Pitch 1.27mm, IPC High Density)
footprint ADI-R-8_M (SOIC, 8-Leads, Body 4.9x3.9mm, Pitch 1.27mm, IPC Low Density)
pins on every part: 4 -V (power), 8 +V (power)
part A pins: 1 OUT A (out), 2 -IN A (in), 3 +IN A (in)
part B pins: 5 +IN B (in), 6 -IN B (in), 7 OUT B (out)

## AD8512AR-REEL7
designator U?
Double Channel Low Offset Voltage Operational Amplifier, 8 MHz BW, 20 V/us SR, Industrial, 8-pin SOIC (R-8), Reel; Generic Part Number: AD8512; Manufacturer: Analog Devices; PartNumber: AD8512AR-REEL7; Amplifiers Per Package: 2; Input Bias Current: 21pA; Input Offset Voltage: 6pA; Iq/Amp: 2.5mA; Slew Rate: 20V/us; Small Signal Bandwidth: 8MHz; V Span Max: 36V; V Span Min: 9V; DatasheetVersion: Rev. I; PackageVersion: 060506-A; PackageReference: R-8; PackageDescription: 8-Pin Standard Small Outline Package, Body 3.9 x 4.9 mm, Pitch 1.27 mm; Supplier 1: Digi-Key; Supplier Part Number 1: AD8512AR-REEL7-ND; Supplier 2: Newark; Supplier Part Number 2: 02H1929; Mounting Technology: Surface Mount; Code_JEDEC: MS-012-AA; ComponentLink1Description: Manufacturer URL; ComponentLink1URL: http://www.analog.com/en/index.html; ComponentLink2Description: Datasheet; ComponentLink2URL: http://www.analog.com/static/imported-files/data_sheets/AD8510_8512_8513.pdf; ComponentLink3Description: Package Specification; ComponentLink3URL: http://www.analog.com/static/imported-files/packages/PKG_PDF/SOIC_Narrow%20(R)/R_8.pdf; ComponentLink4Description: Reference Circuit; ComponentLink4URL: http://www.analog.com/en/all-operational-amplifiers-op-amps/operational-amplifiers-op-amps/ad8512/products/product.html#product-recommendations
footprint ADI-R-8_N (SOIC, 8-Leads, Body 4.9x3.9mm, Pitch 1.27mm, IPC Medium Density)
footprint ADI-R-8_L (SOIC, 8-Leads, Body 4.9x3.9mm, Pitch 1.27mm, IPC High Density)
footprint ADI-R-8_M (SOIC, 8-Leads, Body 4.9x3.9mm, Pitch 1.27mm, IPC Low Density)
pins on every part: 4 -V (power), 8 +V (power)
part A pins: 1 OUT A (out), 2 -IN A (in), 3 +IN A (in)
part B pins: 5 +IN B (in), 6 -IN B (in), 7 OUT B (out)

## AD8512ARMZ
designator U?
Double Channel Low Offset Voltage Operational Amplifier, 8 MHz BW, 20 V/us SR, Industrial, 8-pin SOP (RM-8), Tube; Generic Part Number: AD8512; Manufacturer: Analog Devices; PartNumber: AD8512ARMZ; Amplifiers Per Package: 2; Input Bias Current: 21pA; Input Offset Voltage: 6pA; Iq/Amp: 2.5mA; Slew Rate: 20V/us; Small Signal Bandwidth: 8MHz; V Span Max: 36V; V Span Min: 9V; DatasheetVersion: Rev. I; PackageReference: RM-8; PackageDescription: 8-Pin Mini Small Outline Package, Body 3 x 3 mm, Pitch 0.65 mm; Supplier 1: Digi-Key; Supplier Part Number 1: AD8512ARMZ-ND; Supplier 2: Farnell; Supplier Part Number 2: 2112575; Supplier 3: Newark; Supplier Part Number 3: 19P8301; Mounting Technology: Surface Mount; Code_JEDEC: MO-187-AA; ComponentLink1Description: Manufacturer URL; ComponentLink1URL: http://www.analog.com/en/index.html; ComponentLink2Description: Datasheet; ComponentLink2URL: http://www.analog.com/static/imported-files/data_sheets/AD8510_8512_8513.pdf; ComponentLink3Description: Package Specification; ComponentLink3URL: http://www.analog.com/static/imported-files/packages/PKG_PDF/MSOP%28RM%29/RM_8.pdf; ComponentLink4Description: Reference Circuit; ComponentLink4URL: http://www.analog.com/en/all-operational-amplifiers-op-amps/operational-amplifiers-op-amps/ad8512/products/product.html#product-recommendations
footprint ADI-RM-8_N (SOP, 8-Leads, Body 3x3mm, Pitch 0.65mm, IPC Medium Density)
footprint ADI-RM-8_L (SOP, 8-Leads, Body 3x3mm, Pitch 0.65mm, IPC High Density)
footprint ADI-RM-8_M (SOP, 8-Leads, Body 3x3mm, Pitch 0.65mm, IPC Low Density)
pins on every part: 4 -V (power), 8 +V (power)
part A pins: 1 OUT A (out), 2 -IN A (in), 3 +IN A (in)
part B pins: 5 +IN B (in), 6 -IN B (in), 7 OUT B (out)

## AD8512ARMZ-REEL
designator U?
Double Channel Low Offset Voltage Operational Amplifier, 8 MHz BW, 20 V/us SR, Industrial, 8-pin SOP (RM-8), Reel; Generic Part Number: AD8512; Manufacturer: Analog Devices; PartNumber: AD8512ARMZ-REEL; Amplifiers Per Package: 2; Input Bias Current: 21pA; Input Offset Voltage: 6pA; Iq/Amp: 2.5mA; Slew Rate: 20V/us; Small Signal Bandwidth: 8MHz; V Span Max: 36V; V Span Min: 9V; DatasheetVersion: Rev. I; PackageReference: RM-8; PackageDescription: 8-Pin Mini Small Outline Package, Body 3 x 3 mm, Pitch 0.65 mm; Supplier 1: Digi-Key; Supplier Part Number 1: AD8512ARMZ-REELTR-ND; Supplier 2: Digi-Key; Supplier Part Number 2: AD8512ARMZ-REELCT-ND; Supplier 3: Digi-Key; Supplier Part Number 3: AD8512ARMZ-REELDKR-ND; Supplier 4: Newark; Supplier Part Number 4: 59K6772; Mounting Technology: Surface Mount; Code_JEDEC: MO-187-AA; ComponentLink1Description: Manufacturer URL; ComponentLink1URL: http://www.analog.com/en/index.html; ComponentLink2Description: Datasheet; ComponentLink2URL: http://www.analog.com/static/imported-files/data_sheets/AD8510_8512_8513.pdf; ComponentLink3Description: Package Specification; ComponentLink3URL: http://www.analog.com/static/imported-files/packages/PKG_PDF/MSOP%28RM%29/RM_8.pdf; ComponentLink4Description: Reference Circuit; ComponentLink4URL: http://www.analog.com/en/all-operational-amplifiers-op-amps/operational-amplifiers-op-amps/ad8512/products/product.html#product-recommendations
footprint ADI-RM-8_N (SOP, 8-Leads, Body 3x3mm, Pitch 0.65mm, IPC Medium Density)
footprint ADI-RM-8_L (SOP, 8-Leads, Body 3x3mm, Pitch 0.65mm, IPC High Density)
footprint ADI-RM-8_M (SOP, 8-Leads, Body 3x3mm, Pitch 0.65mm, IPC Low Density)
pins on every part: 4 -V (power), 8 +V (power)
part A pins: 1 OUT A (out), 2 -IN A (in), 3 +IN A (in)
part B pins: 5 +IN B (in), 6 -IN B (in), 7 OUT B (out)

## AD8512ARZ
designator U?
Double Channel Low Offset Voltage Operational Amplifier, 8 MHz BW, 20 V/us SR, Industrial, 8-pin SOIC (R-8), Tube; Generic Part Number: AD8512; Manufacturer: Analog Devices; PartNumber: AD8512ARZ; Amplifiers Per Package: 2; Input Bias Current: 21pA; Input Offset Voltage: 6pA; Iq/Amp: 2.5mA; Slew Rate: 20V/us; Small Signal Bandwidth: 8MHz; V Span Max: 36V; V Span Min: 9V; DatasheetVersion: Rev. I; PackageVersion: 060506-A; PackageReference: R-8; PackageDescription: 8-Pin Standard Small Outline Package, Body 3.9 x 4.9 mm, Pitch 1.27 mm; Supplier 1: Digi-Key; Supplier Part Number 1: AD8512ARZ-ND; Supplier 2: Farnell; Supplier Part Number 2: 8621560; Supplier 3: Newark; Supplier Part Number 3: 19M0958; Mounting Technology: Surface Mount; Code_JEDEC: MS-012-AA; ComponentLink1Description: Manufacturer URL; ComponentLink1URL: http://www.analog.com/en/index.html; ComponentLink2Description: Datasheet; ComponentLink2URL: http://www.analog.com/static/imported-files/data_sheets/AD8510_8512_8513.pdf; ComponentLink3Description: Package Specification; ComponentLink3URL: http://www.analog.com/static/imported-files/packages/PKG_PDF/SOIC_Narrow%20(R)/R_8.pdf; ComponentLink4Description: Reference Circuit; ComponentLink4URL: http://www.analog.com/en/all-operational-amplifiers-op-amps/operational-amplifiers-op-amps/ad8512/products/product.html#product-recommendations
footprint ADI-R-8_N (SOIC, 8-Leads, Body 4.9x3.9mm, Pitch 1.27mm, IPC Medium Density)
footprint ADI-R-8_L (SOIC, 8-Leads, Body 4.9x3.9mm, Pitch 1.27mm, IPC High Density)
footprint ADI-R-8_M (SOIC, 8-Leads, Body 4.9x3.9mm, Pitch 1.27mm, IPC Low Density)
pins on every part: 4 -V (power), 8 +V (power)
part A pins: 1 OUT A (out), 2 -IN A (in), 3 +IN A (in)
part B pins: 5 +IN B (in), 6 -IN B (in), 7 OUT B (out)

## AD8512ARZ-REEL
designator U?
Double Channel Low Offset Voltage Operational Amplifier, 8 MHz BW, 20 V/us SR, Industrial, 8-pin SOIC (R-8), Reel; Generic Part Number: AD8512; Manufacturer: Analog Devices; PartNumber: AD8512ARZ-REEL; Amplifiers Per Package: 2; Input Bias Current: 21pA; Input Offset Voltage: 6pA; Iq/Amp: 2.5mA; Slew Rate: 20V/us; Small Signal Bandwidth: 8MHz; V Span Max: 36V; V Span Min: 9V; DatasheetVersion: Rev. I; PackageVersion: 060506-A; PackageReference: R-8; PackageDescription: 8-Pin Standard Small Outline Package, Body 3.9 x 4.9 mm, Pitch 1.27 mm; Supplier 1: Digi-Key; Supplier Part Number 1: AD8512ARZ-REELTR-ND; Supplier 2: Digi-Key; Supplier Part Number 2: AD8512ARZ-REELCT-ND; Supplier 3: Digi-Key; Supplier Part Number 3: AD8512ARZ-REELDKR-ND; Supplier 4: Newark; Supplier Part Number 4: 59K6775; Mounting Technology: Surface Mount; Code_JEDEC: MS-012-AA; ComponentLink1Description: Manufacturer URL; ComponentLink1URL: http://www.analog.com/en/index.html; ComponentLink2Description: Datasheet; ComponentLink2URL: http://www.analog.com/static/imported-files/data_sheets/AD8510_8512_8513.pdf; ComponentLink3Description: Package Specification; ComponentLink3URL: http://www.analog.com/static/imported-files/packages/PKG_PDF/SOIC_Narrow%20(R)/R_8.pdf; ComponentLink4Description: Reference Circuit; ComponentLink4URL: http://www.analog.com/en/all-operational-amplifiers-op-amps/operational-amplifiers-op-amps/ad8512/products/product.html#product-recommendations
footprint ADI-R-8_N (SOIC, 8-Leads, Body 4.9x3.9mm, Pitch 1.27mm, IPC Medium Density)
footprint ADI-R-8_L (SOIC, 8-Leads, Body 4.9x3.9mm, Pitch 1.27mm, IPC High Density)
footprint ADI-R-8_M (SOIC, 8-Leads, Body 4.9x3.9mm, Pitch 1.27mm, IPC Low Density)
pins on every part: 4 -V (power), 8 +V (power)
part A pins: 1 OUT A (out), 2 -IN A (in), 3 +IN A (in)
part B pins: 5 +IN B (in), 6 -IN B (in), 7 OUT B (out)

## AD8512ARZ-REEL7
designator U?
Double Channel Low Offset Voltage Operational Amplifier, 8 MHz BW, 20 V/us SR, Industrial, 8-pin SOIC (R-8), Reel; Generic Part Number: AD8512; Manufacturer: Analog Devices; PartNumber: AD8512ARZ-REEL7; Amplifiers Per Package: 2; Input Bias Current: 21pA; Input Offset Voltage: 6pA; Iq/Amp: 2.5mA; Slew Rate: 20V/us; Small Signal Bandwidth: 8MHz; V Span Max: 36V; V Span Min: 9V; DatasheetVersion: Rev. I; PackageVersion: 060506-A; PackageReference: R-8; PackageDescription: 8-Pin Standard Small Outline Package, Body 3.9 x 4.9 mm, Pitch 1.27 mm; Supplier 1: Digi-Key; Supplier Part Number 1: AD8512ARZ-REEL7TR-ND; Supplier 2: Digi-Key; Supplier Part Number 2: AD8512ARZ-REEL7CT-ND; Supplier 3: Digi-Key; Supplier Part Number 3: AD8512ARZ-REEL7DKR-ND; Supplier 4: Newark; Supplier Part Number 4: 59K6776; Mounting Technology: Surface Mount; Code_JEDEC: MS-012-AA; ComponentLink1Description: Manufacturer URL; ComponentLink1URL: http://www.analog.com/en/index.html; ComponentLink2Description: Datasheet; ComponentLink2URL: http://www.analog.com/static/imported-files/data_sheets/AD8510_8512_8513.pdf; ComponentLink3Description: Package Specification; ComponentLink3URL: http://www.analog.com/static/imported-files/packages/PKG_PDF/SOIC_Narrow%20(R)/R_8.pdf; ComponentLink4Description: Reference Circuit; ComponentLink4URL: http://www.analog.com/en/all-operational-amplifiers-op-amps/operational-amplifiers-op-amps/ad8512/products/product.html#product-recommendations
footprint ADI-R-8_N (SOIC, 8-Leads, Body 4.9x3.9mm, Pitch 1.27mm, IPC Medium Density)
footprint ADI-R-8_L (SOIC, 8-Leads, Body 4.9x3.9mm, Pitch 1.27mm, IPC High Density)
footprint ADI-R-8_M (SOIC, 8-Leads, Body 4.9x3.9mm, Pitch 1.27mm, IPC Low Density)
pins on every part: 4 -V (power), 8 +V (power)
part A pins: 1 OUT A (out), 2 -IN A (in), 3 +IN A (in)
part B pins: 5 +IN B (in), 6 -IN B (in), 7 OUT B (out)

## AD8512BR
designator U?
Double Channel Low Offset Voltage Operational Amplifier, 8 MHz BW, 20 V/us SR, Industrial, 8-pin SOIC (R-8), Tube; Generic Part Number: AD8512; Manufacturer: Analog Devices; PartNumber: AD8512BR; Amplifiers Per Package: 2; Input Bias Current: 21pA; Input Offset Voltage: 6pA; Iq/Amp: 2.5mA; Slew Rate: 20V/us; Small Signal Bandwidth: 8MHz; V Span Max: 36V; V Span Min: 9V; DatasheetVersion: Rev. I; PackageVersion: 060506-A; PackageReference: R-8; PackageDescription: 8-Pin Standard Small Outline Package, Body 3.9 x 4.9 mm, Pitch 1.27 mm; Supplier 1: Digi-Key; Supplier Part Number 1: AD8512BR-ND; Mounting Technology: Surface Mount; Code_JEDEC: MS-012-AA; ComponentLink1Description: Manufacturer URL; ComponentLink1URL: http://www.analog.com/en/index.html; ComponentLink2Description: Datasheet; ComponentLink2URL: http://www.analog.com/static/imported-files/data_sheets/AD8510_8512_8513.pdf; ComponentLink3Description: Package Specification; ComponentLink3URL: http://www.analog.com/static/imported-files/packages/PKG_PDF/SOIC_Narrow%20(R)/R_8.pdf; ComponentLink4Description: Reference Circuit; ComponentLink4URL: http://www.analog.com/en/all-operational-amplifiers-op-amps/operational-amplifiers-op-amps/ad8512/products/product.html#product-recommendations
footprint ADI-R-8_N (SOIC, 8-Leads, Body 4.9x3.9mm, Pitch 1.27mm, IPC Medium Density)
footprint ADI-R-8_L (SOIC, 8-Leads, Body 4.9x3.9mm, Pitch 1.27mm, IPC High Density)
footprint ADI-R-8_M (SOIC, 8-Leads, Body 4.9x3.9mm, Pitch 1.27mm, IPC Low Density)
pins on every part: 4 -V (power), 8 +V (power)
part A pins: 1 OUT A (out), 2 -IN A (in), 3 +IN A (in)
part B pins: 5 +IN B (in), 6 -IN B (in), 7 OUT B (out)

## AD8512BR-REEL
designator U?
Double Channel Low Offset Voltage Operational Amplifier, 8 MHz BW, 20 V/us SR, Industrial, 8-pin SOIC (R-8), Reel; Generic Part Number: AD8512; Manufacturer: Analog Devices; PartNumber: AD8512BR-REEL; Amplifiers Per Package: 2; Input Bias Current: 21pA; Input Offset Voltage: 6pA; Iq/Amp: 2.5mA; Slew Rate: 20V/us; Small Signal Bandwidth: 8MHz; V Span Max: 36V; V Span Min: 9V; DatasheetVersion: Rev. I; PackageVersion: 060506-A; PackageReference: R-8; PackageDescription: 8-Pin Standard Small Outline Package, Body 3.9 x 4.9 mm, Pitch 1.27 mm; Supplier 1: Digi-Key; Supplier Part Number 1: AD8512BR-REEL-ND; Supplier 2: Newark; Supplier Part Number 2: 02H1931; Mounting Technology: Surface Mount; Code_JEDEC: MS-012-AA; ComponentLink1Description: Manufacturer URL; ComponentLink1URL: http://www.analog.com/en/index.html; ComponentLink2Description: Datasheet; ComponentLink2URL: http://www.analog.com/static/imported-files/data_sheets/AD8510_8512_8513.pdf; ComponentLink3Description: Package Specification; ComponentLink3URL: http://www.analog.com/static/imported-files/packages/PKG_PDF/SOIC_Narrow%20(R)/R_8.pdf; ComponentLink4Description: Reference Circuit; ComponentLink4URL: http://www.analog.com/en/all-operational-amplifiers-op-amps/operational-amplifiers-op-amps/ad8512/products/product.html#product-recommendations
footprint ADI-R-8_N (SOIC, 8-Leads, Body 4.9x3.9mm, Pitch 1.27mm, IPC Medium Density)
footprint ADI-R-8_L (SOIC, 8-Leads, Body 4.9x3.9mm, Pitch 1.27mm, IPC High Density)
footprint ADI-R-8_M (SOIC, 8-Leads, Body 4.9x3.9mm, Pitch 1.27mm, IPC Low Density)
pins on every part: 4 -V (power), 8 +V (power)
part A pins: 1 OUT A (out), 2 -IN A (in), 3 +IN A (in)
part B pins: 5 +IN B (in), 6 -IN B (in), 7 OUT B (out)

## AD8512BR-REEL7
designator U?
Double Channel Low Offset Voltage Operational Amplifier, 8 MHz BW, 20 V/us SR, Industrial, 8-pin SOIC (R-8), Reel; Generic Part Number: AD8512; Manufacturer: Analog Devices; PartNumber: AD8512BR-REEL7; Amplifiers Per Package: 2; Input Bias Current: 21pA; Input Offset Voltage: 6pA; Iq/Amp: 2.5mA; Slew Rate: 20V/us; Small Signal Bandwidth: 8MHz; V Span Max: 36V; V Span Min: 9V; DatasheetVersion: Rev. I; PackageVersion: 060506-A; PackageReference: R-8; PackageDescription: 8-Pin Standard Small Outline Package, Body 3.9 x 4.9 mm, Pitch 1.27 mm; Supplier 1: Digi-Key; Supplier Part Number 1: AD8512BR-REEL7-ND; Mounting Technology: Surface Mount; Code_JEDEC: MS-012-AA; ComponentLink1Description: Manufacturer URL; ComponentLink1URL: http://www.analog.com/en/index.html; ComponentLink2Description: Datasheet; ComponentLink2URL: http://www.analog.com/static/imported-files/data_sheets/AD8510_8512_8513.pdf; ComponentLink3Description: Package Specification; ComponentLink3URL: http://www.analog.com/static/imported-files/packages/PKG_PDF/SOIC_Narrow%20(R)/R_8.pdf; ComponentLink4Description: Reference Circuit; ComponentLink4URL: http://www.analog.com/en/all-operational-amplifiers-op-amps/operational-amplifiers-op-amps/ad8512/products/product.html#product-recommendations
footprint ADI-R-8_N (SOIC, 8-Leads, Body 4.9x3.9mm, Pitch 1.27mm, IPC Medium Density)
footprint ADI-R-8_L (SOIC, 8-Leads, Body 4.9x3.9mm, Pitch 1.27mm, IPC High Density)
footprint ADI-R-8_M (SOIC, 8-Leads, Body 4.9x3.9mm, Pitch 1.27mm, IPC Low Density)
pins on every part: 4 -V (power), 8 +V (power)
part A pins: 1 OUT A (out), 2 -IN A (in), 3 +IN A (in)
part B pins: 5 +IN B (in), 6 -IN B (in), 7 OUT B (out)

## AD8512BRZ
designator U?
Double Channel Low Offset Voltage Operational Amplifier, 8 MHz BW, 20 V/us SR, Industrial, 8-pin SOIC (R-8), Tube; Generic Part Number: AD8512; Manufacturer: Analog Devices; PartNumber: AD8512BRZ; Amplifiers Per Package: 2; Input Bias Current: 21pA; Input Offset Voltage: 6pA; Iq/Amp: 2.5mA; Slew Rate: 20V/us; Small Signal Bandwidth: 8MHz; V Span Max: 36V; V Span Min: 9V; DatasheetVersion: Rev. I; PackageVersion: 060506-A; PackageReference: R-8; PackageDescription: 8-Pin Standard Small Outline Package, Body 3.9 x 4.9 mm, Pitch 1.27 mm; Supplier 1: Digi-Key; Supplier Part Number 1: AD8512BRZ-ND; Supplier 2: Newark; Supplier Part Number 2: 59K6777; Mounting Technology: Surface Mount; Code_JEDEC: MS-012-AA; ComponentLink1Description: Manufacturer URL; ComponentLink1URL: http://www.analog.com/en/index.html; ComponentLink2Description: Datasheet; ComponentLink2URL: http://www.analog.com/static/imported-files/data_sheets/AD8510_8512_8513.pdf; ComponentLink3Description: Package Specification; ComponentLink3URL: http://www.analog.com/static/imported-files/packages/PKG_PDF/SOIC_Narrow%20(R)/R_8.pdf; ComponentLink4Description: Reference Circuit; ComponentLink4URL: http://www.analog.com/en/all-operational-amplifiers-op-amps/operational-amplifiers-op-amps/ad8512/products/product.html#product-recommendations
footprint ADI-R-8_N (SOIC, 8-Leads, Body 4.9x3.9mm, Pitch 1.27mm, IPC Medium Density)
footprint ADI-R-8_L (SOIC, 8-Leads, Body 4.9x3.9mm, Pitch 1.27mm, IPC High Density)
footprint ADI-R-8_M (SOIC, 8-Leads, Body 4.9x3.9mm, Pitch 1.27mm, IPC Low Density)
pins on every part: 4 -V (power), 8 +V (power)
part A pins: 1 OUT A (out), 2 -IN A (in), 3 +IN A (in)
part B pins: 5 +IN B (in), 6 -IN B (in), 7 OUT B (out)

## AD8512BRZ-REEL
designator U?
Double Channel Low Offset Voltage Operational Amplifier, 8 MHz BW, 20 V/us SR, Industrial, 8-pin SOIC (R-8), Reel; Generic Part Number: AD8512; Manufacturer: Analog Devices; PartNumber: AD8512BRZ-REEL; Amplifiers Per Package: 2; Input Bias Current: 21pA; Input Offset Voltage: 6pA; Iq/Amp: 2.5mA; Slew Rate: 20V/us; Small Signal Bandwidth: 8MHz; V Span Max: 36V; V Span Min: 9V; DatasheetVersion: Rev. I; PackageVersion: 060506-A; PackageReference: R-8; PackageDescription: 8-Pin Standard Small Outline Package, Body 3.9 x 4.9 mm, Pitch 1.27 mm; Supplier 1: Digi-Key; Supplier Part Number 1: AD8512BRZ-REEL-ND; Supplier 2: Newark; Supplier Part Number 2: 59K6778; Mounting Technology: Surface Mount; Code_JEDEC: MS-012-AA; ComponentLink1Description: Manufacturer URL; ComponentLink1URL: http://www.analog.com/en/index.html; ComponentLink2Description: Datasheet; ComponentLink2URL: http://www.analog.com/static/imported-files/data_sheets/AD8510_8512_8513.pdf; ComponentLink3Description: Package Specification; ComponentLink3URL: http://www.analog.com/static/imported-files/packages/PKG_PDF/SOIC_Narrow%20(R)/R_8.pdf; ComponentLink4Description: Reference Circuit; ComponentLink4URL: http://www.analog.com/en/all-operational-amplifiers-op-amps/operational-amplifiers-op-amps/ad8512/products/product.html#product-recommendations
footprint ADI-R-8_N (SOIC, 8-Leads, Body 4.9x3.9mm, Pitch 1.27mm, IPC Medium Density)
footprint ADI-R-8_L (SOIC, 8-Leads, Body 4.9x3.9mm, Pitch 1.27mm, IPC High Density)
footprint ADI-R-8_M (SOIC, 8-Leads, Body 4.9x3.9mm, Pitch 1.27mm, IPC Low Density)
pins on every part: 4 -V (power), 8 +V (power)
part A pins: 1 OUT A (out), 2 -IN A (in), 3 +IN A (in)
part B pins: 5 +IN B (in), 6 -IN B (in), 7 OUT B (out)